# Altium footprint library MikesLib.PcbLib: 15 footprints
Each footprint in its own frame and in the unit in brackets; x right, y up, seen from the top. Pads: shape width x height; smd on the part's side, far side on the other; paste and mask are expansions set on the pad; w line width, h text height; cw(c..) or ccw(c..) is an arc to the next point about the centre after c.
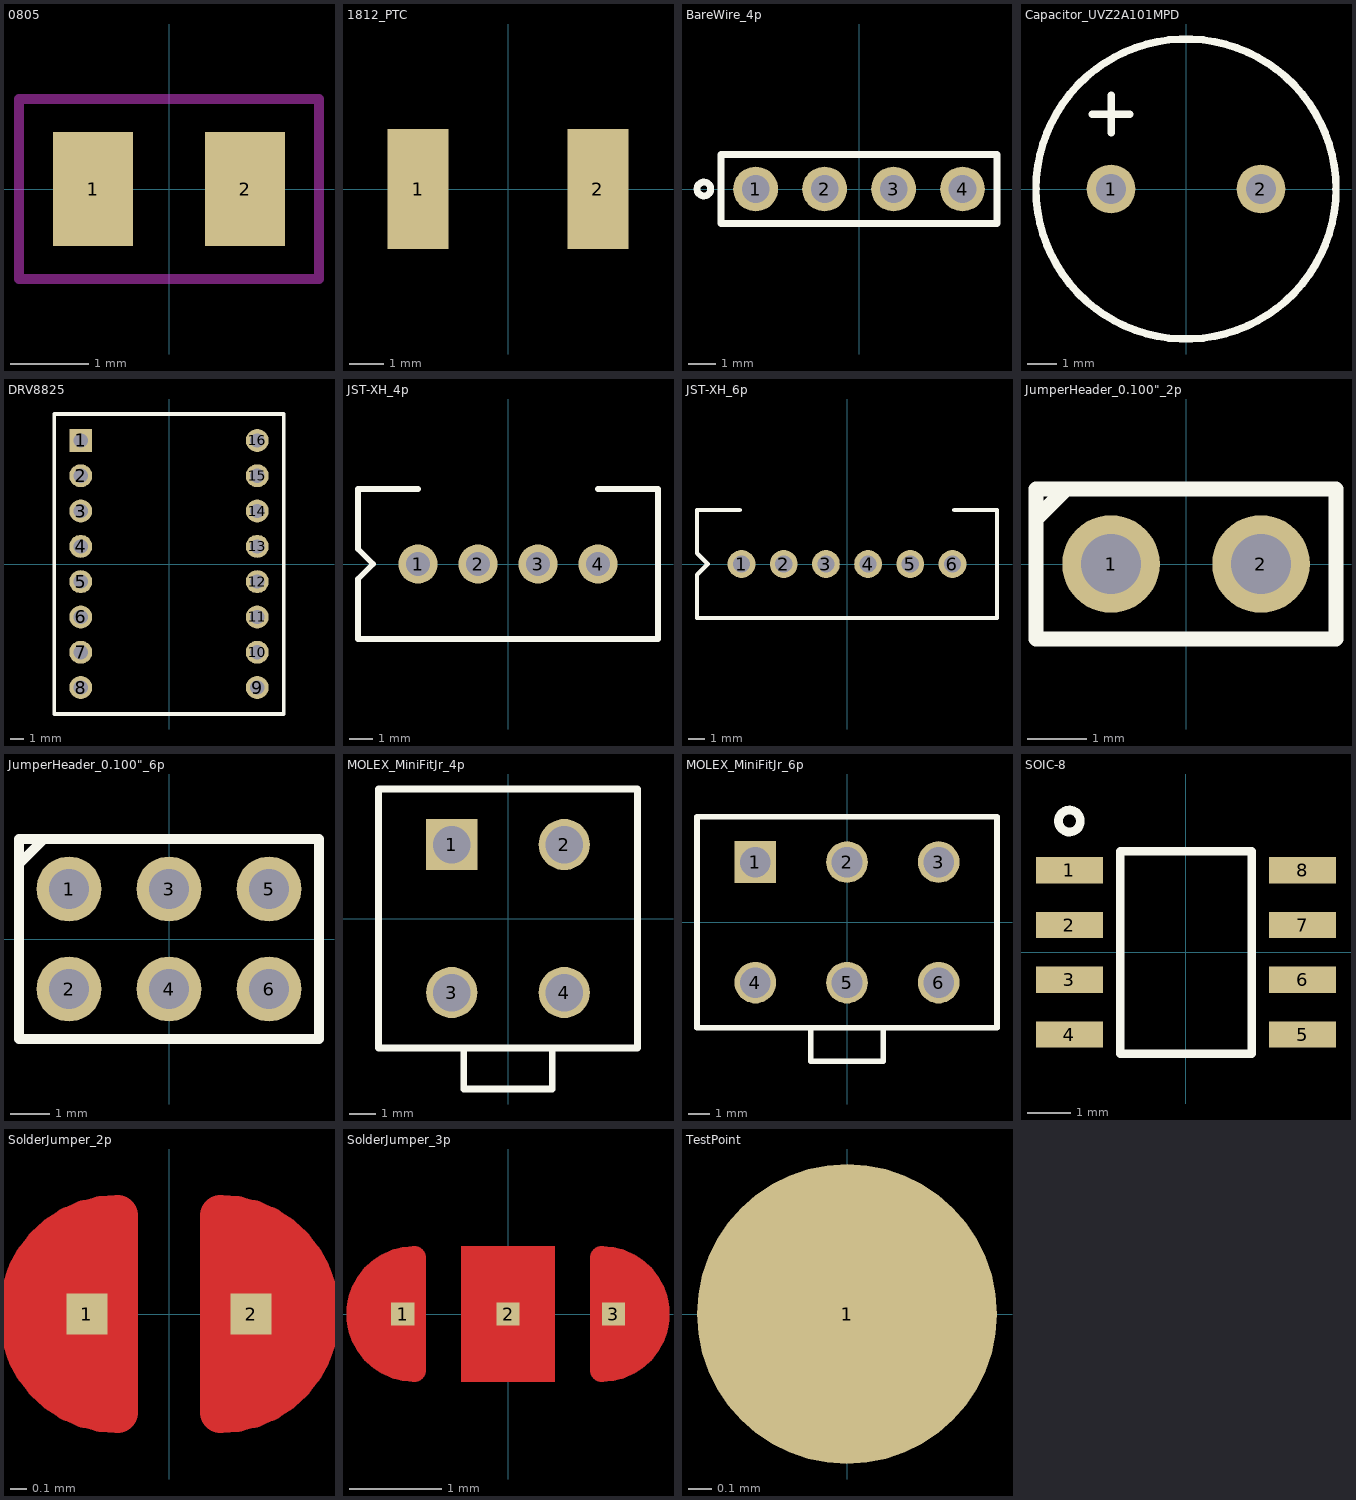
[diagram p0: the footprints below, top view; thin cyan lines are the x and y axes]

## 0805 [mil]
pads (2):
  rect 40x57 smd: 1(-38,0) 2(38,0)
Top Layer keep-out:
  lines w5: -75,-45 75,-45 75,45 -75,45 -75,-45
3D body "Res_0805.stp": height 20, standoff 0, extent -39.5,-24.5 39.5,24.5

## 1812_PTC [mil] "Digikey - 507-1768-1-ND (24V 1.1A Ih)"
pads (2):
  rect 70x138 smd: 1(-103,0) 2(103,0)
3D body "PTC_1812.stp": height 40, standoff 0, extent -126,-63 126,63

## BareWire_4p [mil]
pads (4):
  round 65 hole 40: 1(-150,0) 2(-50,0) 3(50,0) 4(150,0)
Top Overlay:
  circle w10: c-225,0 r10
  lines w10: -200,-50 200,-50 200,50 -200,50 -200,-50

## Capacitor_UVZ2A101MPD [mil] "Electrolytic capacitor, 100uF, 100V, 5mm, 22mm"
pads (2):
  round 65 hole 40: 1(-100,0) 2(100,0)
Top Overlay:
  circle w10: c0,0 r200
  lines w10: -125,100 -75,100 ; -100,75 -100,125
3D body "Capacitor_UVZ2A101MPD.stp": height 871, standoff -100, extent -202,-202 202,202

## DRV8825 [mil]
pads (16):
  rect 65x65 hole 40: 1(-250,350)
  round 65 hole 40: 2(-250,250) 3(-250,150) 4(-250,50) 5(-250,-50) 6(-250,-150) 7(-250,-250) 8(-250,-350) 9(250,-350) 10(250,-250) 11(250,-150) 12(250,-50) 13(250,50) 14(250,150) 15(250,250) 16(250,350)
Top Overlay:
  lines w10: -325,-425 -325,425 325,425 325,-425 -325,-425
3D body "DRV8825.STEP": height 232, standoff -236, extent -300,-400 300,400

## JST-XH_4p [mil] "JST-XH 4p 0.098\". Footprint sized to 0.100\""
pads (4):
  round 65 hole 40: 1(-150,0) 2(-50,0) 3(50,0) 4(150,0)
Top Overlay:
  lines w10: -150,125 -250,125 -250,25 -225,0 -250,-25 -250,-125 250,-125 250,125 150,125
3D body "B4B-XH-A-LF--SN---3DModel-STEP-269445.STEP": height 275.59, standoff -133.86, extent -244.09,-133.86 244.09,92.52

## JST-XH_6p [mil] "JST-XH 6p 0.098\". Footprint sized to 0.098\""
pads (6):
  round 65 hole 40: 1(-246.06,0) 2(-147.64,0) 3(-49.21,0) 4(49.21,0) 5(147.64,0) 6(246.06,0)
Top Overlay:
  lines w10: -350,-126 350,-126 350,126 250,126 ; -350,-125 -350,-25 -325,0 -350,25 -350,125 ; -350,126 -250,126

## JumperHeader_0.100"_2p [mil]
pads (2):
  round 65 hole 40: 1(-50,0) 2(50,0)
Top Overlay:
  lines w10: -100,30 -80,50 ; -100,-50 -100,50 100,50 100,-50 -100,-50
3D body "Header_0.100_2p.stp": height 330, standoff -120, extent -100,-55 100,55

## JumperHeader_0.100"_6p [mil]
pads (6):
  round 65 hole 40: 1(-100,50) 2(-100,-50) 3(0,50) 4(0,-50) 5(100,50) 6(100,-50)
Top Overlay:
  lines w10: -150,75 -125,100 ; -150,-100 150,-100 150,100 -150,100 -150,-100
3D body "Header_0.100_6p_3by2.stp": height 330, standoff -120, extent -150,-95 150,95

## MOLEX_MiniFitJr_4p [mil] "Digikey - WM3844-ND use with WM13116-ND"
pads (4):
  rect 75x75 hole 55: 1(-82.5,108.5)
  round 75 hole 55: 2(82.5,108.5) 3(-82.5,-108.5) 4(82.5,-108.5)
Top Overlay:
  lines w10: -65,-190 -65,-250 65,-250 65,-190 ; -190,-190 190,-190 190,190 -190,190 -190,-190
3D body "MOLEX_MiniFitJr_4p_2by2.stp": height 500, standoff -140, extent -190,-250 190,190

## MOLEX_MiniFitJr_6p [mil] "Digikey - WM3845-ND use with WM16239-ND"
pads (6):
  rect 75x75 hole 55: 1(-165,108.5)
  round 75 hole 55: 2(0,108.5) 3(165,108.5) 4(-165,-108.5) 5(0,-108.5) 6(165,-108.5)
Top Overlay:
  lines w10: -65,-190 -65,-250 65,-250 65,-190 ; -270,-190 -270,190 270,190 270,-190 -270,-190
3D body "MOLEX_MiniFitJr_6p_3by2.stp": height 500, standoff -140, extent -270,-250 270,190

## SOIC-8 [mil] "SOIC-8, 0.154\" (3.9mm) width, Overall L by W 0.193\" by 0.236\" (4.9mm by 6mm)"
pads (8):
  rect 61x24 smd: 1(-106.5,75) 2(-106.5,25) 3(-106.5,-25) 4(-106.5,-75) 5(106.5,-75) 6(106.5,-25) 7(106.5,25) 8(106.5,75)
Top Overlay:
  circle w8: c-106.5,120 r10
  lines w8: -60,-92.5 60,-92.5 60,92.5 -60,92.5 -60,-92.5
3D body "SOIC-8.stp": height 60, standoff 0, extent -118,-96.5 118,96.5

## SolderJumper_2p [mil]
pads (2):
  rect 10x10 smd: 1(-20,0) 2(20,0)
Top Layer:
  lines w10: -12.5,-15 cw(c-12.5,0) -12.5,15 ; -12.5,-6 cw(c-12.5,0) -12.5,6 ; 12.5,-15 ccw(c12.5,0) 12.5,15 ; 12.5,-6 ccw(c12.5,0) 12.5,6 ; -12.5,-24 cw(c-12.5,0) -12.5,24 -12.5,-24 ; 12.5,-24 ccw(c12.5,0) 12.5,24 12.5,-24
Top Solder:
  rectangle: -12.5,-33 12.5,33

## SolderJumper_3p [mil]
pads (3):
  rect 10x10 smd: 1(-45,0) 2(0,0) 3(45,0)
Top Layer:
  rectangle: -20,-29 20,29
  lines w10: -40,-15 cw(c-40,0) -40,15 ; -40,-6 cw(c-40,0) -40,6 ; 40,-15 ccw(c40,0) 40,15 ; 40,-6 ccw(c40,0) 40,6 ; -40,-24 cw(c-40,0) -40,24 -40,-24 ; 40,-24 ccw(c40,0) 40,24 40,-24
Top Solder:
  rectangle: -40,-33 40,33

## TestPoint [mil]
pads (1):
  round 50 smd: 1(0,0)